# EAGLE library part XILINX-JTAG-14 (library df4iah_connector)
Header 2X7 2.54mm, shrouded This header type is used as XILINX JTAG header for 14 positions.
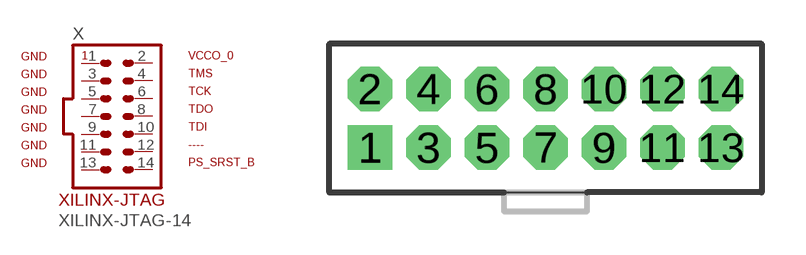
[diagram p35: symbol with the pads of 2X07_2MM00_SHROUDED_XILINX_JTAG; footprint 2X07_2MM00_SHROUDED_XILINX_JTAG]

Designator prefix X

## XILINX-JTAG-14  [2X07_2MM00_SHROUDED_XILINX_JTAG]
1  1  pas
2  2  pas
3  3  pas
4  4  pas
5  5  pas
6  6  pas
7  7  pas
8  8  pas
9  9  pas
10  10  pas
11  11  pas
12  12  pas
13  13  pas
14  14  pas

## Footprint 2X07_2MM00_SHROUDED_XILINX_JTAG (pad centres in mm)
Header 2X7 2.00mm, shrouded This header type is used as XILINX JTAG header for 14 positions.
drill 1.016 square: 1 -6,-1
drill 1.016 octagon: 2 -6,1; 3 -4,-1; 4 -4,1; 5 -2,-1; 6 -2,1; 7 0,-1; 8 0,1; 9 2,-1; 10 2,1; 11 4,-1; 12 4,1; 13 6,-1; 14 6,1